# Altium footprint library Proje01.PcbLib: 28 footprints (part 2 of 2)
Each footprint in its own frame and in the unit in brackets; x right, y up, seen from the top. Pads: shape width x height; smd on the part's side, far side on the other; paste and mask are expansions set on the pad; w line width, h text height; cw(c..) or ccw(c..) is an arc to the next point about the centre after c.
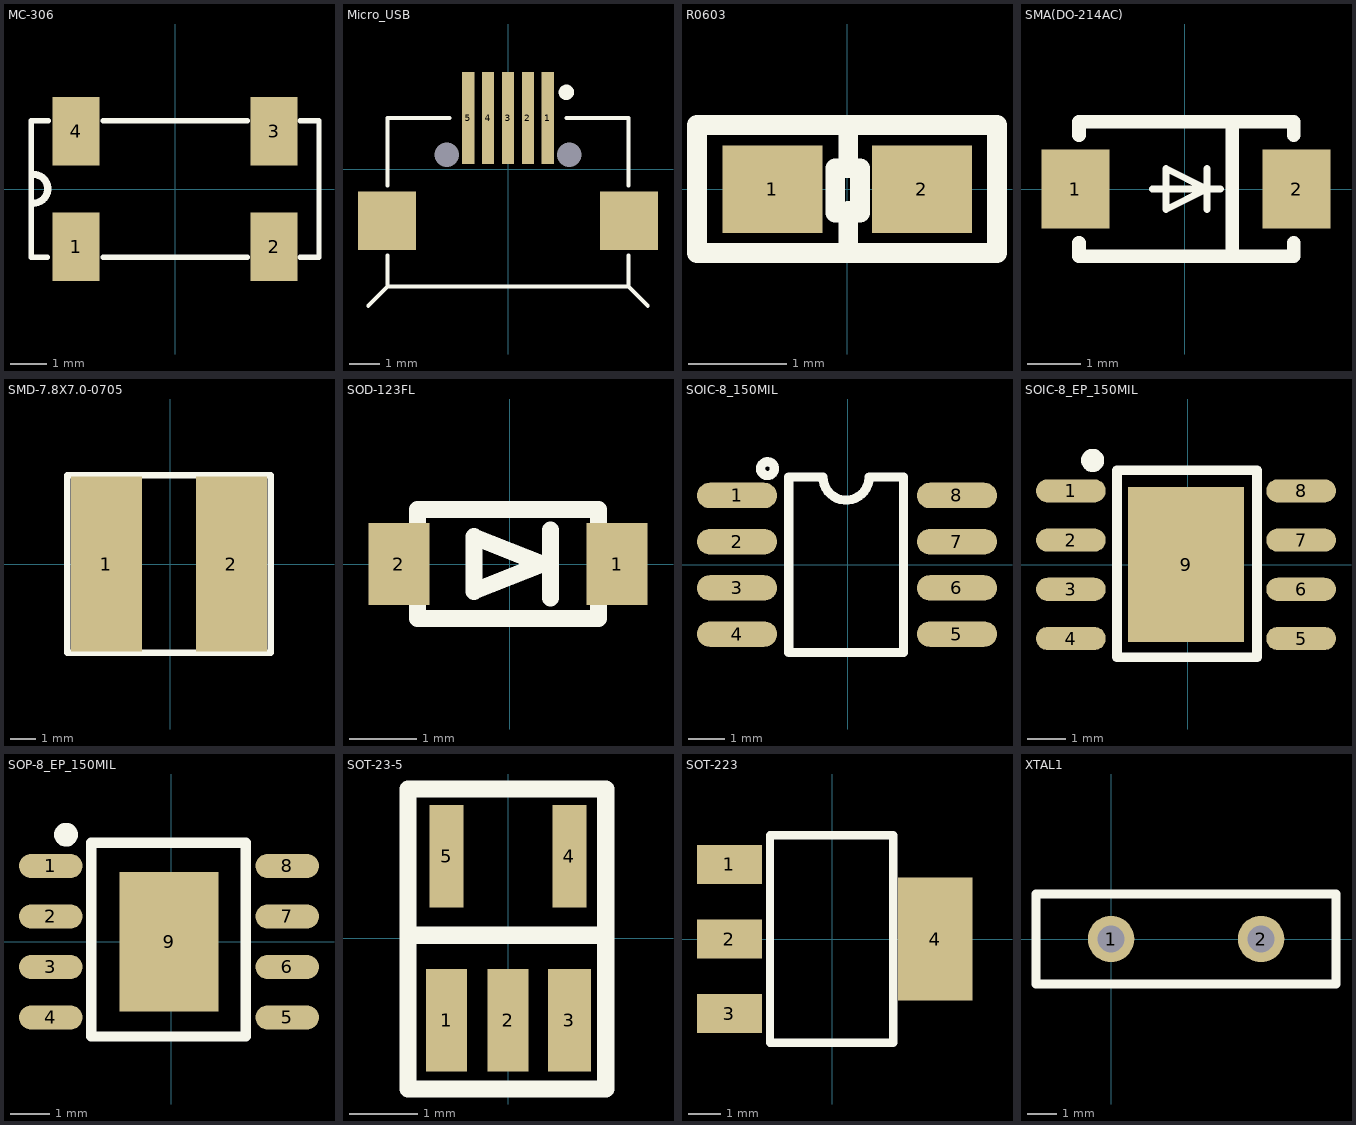
[diagram p1: the footprints below, top view; thin cyan lines are the x and y axes]

## MC-306 [mm]
height 1.6
pads (4):
  rect 1.3x1.9 smd: 1(-2.75,-1.6) 2(2.75,-1.6) 3(2.75,1.6) 4(-2.75,1.6)
Top Overlay:
  lines w0.152: -3.556,-1.9 -4,-1.9 -4,1.9 -3.531,1.9 ; -2,-1.9 2,-1.9 ; -2,1.9 2,1.9 ; 3.48,-1.9 4,-1.9 4,1.9 3.48,1.9
  lines w0.2: -3.937,-0.394 ccw(c-3.937,0.006) -3.937,0.406

## Micro_USB [mm]
height 4.32
pads (9):
  rect 0.4x3 smd: 1(1.3,1.679) 2(0.65,1.679) 3(0,1.679) 4(-0.65,1.679) 5(-1.3,1.679)
  round 0 hole 0.8 unplated: MH1(2,0.471) MH2(-2,0.471)
  rect 1.9x1.9 smd: ""(-3.95,-1.679) ""(3.95,-1.679)
Top Overlay:
  circle w0.25: c1.905,2.519 r0.125
  lines w0.127: -4.567,-4.459 -3.937,-3.829 -3.937,-2.813 ; -3.937,-0.527 -3.937,1.679 ; -3.9,-3.829 3.9,-3.829 ; -3.9,1.679 -1.905,1.679 ; 1.905,1.679 3.9,1.679 ; 3.937,-2.813 3.937,-3.829 4.567,-4.459 ; 3.937,-0.527 3.937,1.679

## R0603 [mil]
height 170.08
pads (2):
  rect 40x35 smd: 1(-29.92,0) 2(29.92,0)
Top Overlay:
  lines w7.87: 0.39,-21.65 0.39,-8.66 ; 0.39,9.45 0.39,21.65 ; -60.07,-25.59 -60.07,25.59 59.93,25.59 59.93,-25.59 -60.07,-25.59 ; -4.72,-9.45 5.12,-9.45 5.12,8.27 -4.72,8.27 -4.72,-9.45

## SMA(DO-214AC) [mil]
pads (2):
  rect 50x57.9 smd: 1(-80,0) 2(82,0)
Top Overlay:
  lines w5: -23.7,0 26.3,0 ; 16.3,-15 16.3,0 ; 16.3,15 16.3,0 ; 16.3,0 -13.7,15 -13.7,0 -13.7,-15 16.3,0
  lines w10: -77.4,-39.37 -77.4,-49.2 80,-49.2 80,-39.37 ; -77.4,39.37 -77.4,49.2 80,49.2 80,39.37 ; 35,-49 35,49

## SMD-7.8X7.0-0705 [mm]
pads (2):
  rect 2.85x7 smd: 1(-2.54,0) 2(2.46,0)
Top Overlay:
  lines w0.254: -4.104,-3.556 -4.104,3.556 4.024,3.556 4.024,-3.556 -4.104,-3.556

## SOD-123FL [mil]
pads (2):
  rect 35.8x48 smd: 1(63,0) 2(-65,0)
Top Overlay:
  lines w10: 24,-20 24,20 ; -54,-32 -54,32 52,32 52,-32 -54,-32 ; -21,-16 -21,16 19,0 -21,-16

## SOIC-8_150MIL [mm]
pads (8):
  oval 2.2x0.7 smd: 1(-3.048,1.905) 2(-3.048,0.635) 3(-3.048,-0.635) 4(-3.048,-1.905) 5(2.997,-1.905) 6(2.997,-0.635) 7(2.997,0.635) 8(2.997,1.905)
Top Overlay:
  circle w0.254: c-2.21,2.642 r0.191
  lines w0.254: -1.626,-2.413 -1.626,2.413 -0.686,2.413 ccw(c-0.051,2.413) 0.584,2.413 1.524,2.413 1.524,-2.413 -1.626,-2.413

## SOIC-8_EP_150MIL [mm]
pads (9):
  oval 1.8x0.6 smd: 1(-3.023,1.905) 2(-3.023,0.635) 3(-3.023,-0.635) 4(-3.023,-1.905) 5(2.921,-1.905) 6(2.921,-0.635) 7(2.921,0.635) 8(2.921,1.905)
  rect 3x4 smd: 9(-0.051,0)
Top Overlay:
  lines w0.254: 1.778,2.438 -1.829,2.438 ; -1.829,2.438 -1.829,-2.388 1.778,-2.388 1.778,2.413 ; -1.829,2.438 -1.829,2.438 ; 1.778,2.413 1.778,2.413
  lines w0.3: -2.311,2.69 cw(c-2.461,2.691) -2.311,2.692

## SOP-8_EP_150MIL [mm]
pads (9):
  oval 1.6x0.6 smd: 1(-3.023,1.905) 2(-3.023,0.635) 3(-3.023,-0.635) 4(-3.023,-1.905) 5(2.921,-1.905) 6(2.921,-0.635) 7(2.921,0.635) 8(2.921,1.905)
  rect 2.5x3.5 smd: 9(-0.051,0)
Top Overlay:
  lines w0.254: -2.007,2.489 -2.007,-2.388 1.88,-2.388 1.88,2.489 -1.981,2.489
  lines w0.3: -2.489,2.69 cw(c-2.639,2.691) -2.489,2.692

## SOT-23-5 [mm]
height 4.32
pads (5):
  rect 0.6x1.5 smd: 1(-0.9,-1.2) 2(0,-1.2)
  rect 0.63x1.5 smd: 3(0.9,-1.2)
  rect 0.5x1.5 smd: 4(0.9,1.2) 5(-0.9,1.2)
Top Overlay:
  lines w0.254: -1.466,0.041 1.43,0.041 ; -1.466,-2.21 -1.466,2.184 1.43,2.184 1.43,-2.21 -1.466,-2.21

## SOT-223 [mm]
pads (4):
  rect 2x1.2 smd: 1(-3.175,2.3) 2(-3.175,0) 3(-3.175,-2.3)
  rect 2.3x3.8 smd: 4(3.175,0)
Top Overlay:
  lines w0.254: -1.925,-3.2 1.875,-3.2 1.875,3.2 -1.925,3.2 -1.925,-3.2

## XTAL1 [mil]
height 170.08
pads (2):
  round 62 hole 35.43: 1(0,0) 2(200,0)
Top Overlay:
  lines w12: -100,-60 300,-60 300,60 -100,60 -100,-60